# Altium footprint library AMS1117-3.3.PcbLib: 1 footprints
Each footprint in its own frame and in the unit in brackets; x right, y up, seen from the top. Pads: shape width x height; smd on the part's side, far side on the other; paste and mask are expansions set on the pad; w line width, h text height; cw(c..) or ccw(c..) is an arc to the next point about the centre after c.
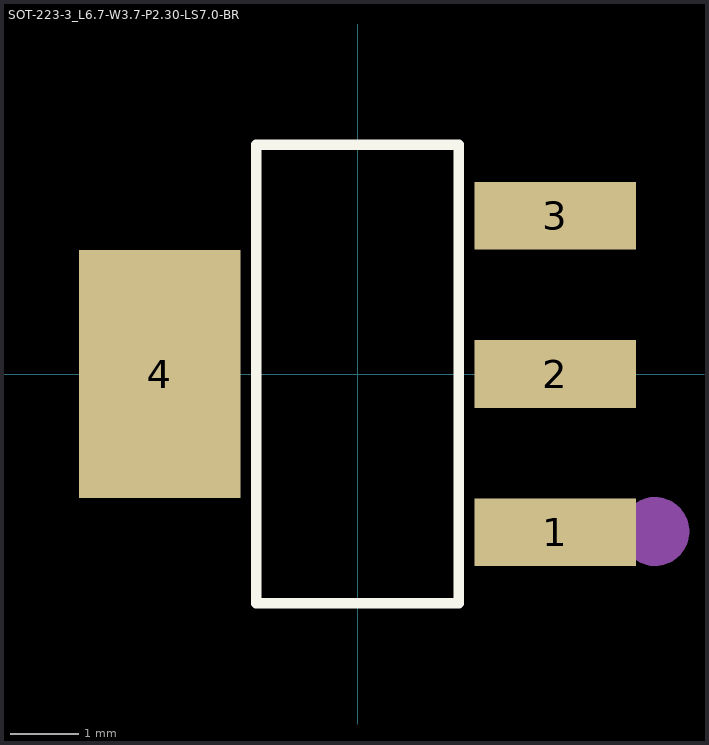
[diagram p0: the footprint, top view; thin cyan lines are the x and y axes]

## SOT-223-3_L6.7-W3.7-P2.30-LS7.0-BR [mm]
pads (4):
  rect 2.34x0.98 smd paste+0 mask+0.051: 1(2.87,-2.3) 2(2.87,0) 3(2.87,2.3)
  rect 2.34x3.6 smd paste+0 mask+0.051: 4(-2.87,0)
Top Overlay:
  lines w0.152: -1.471,-3.326 -1.471,3.326 1.471,3.326 1.471,-3.326 -1.471,-3.326
Mechanical 15:
  circle w0.5: c4.318,-2.286 r0.25
3D body "Regulador de 3.3v.SLDPRT": height 1.6, standoff -0.1, extent -3.444,-2.95 3.556,2.95